# EAGLE library part RTC_PCF2129A (library microbuilder)
PCF2120A - High Accuracy, Temp Compensated RTC with Integrated Crystal Digikey: 568-4960-5-ND
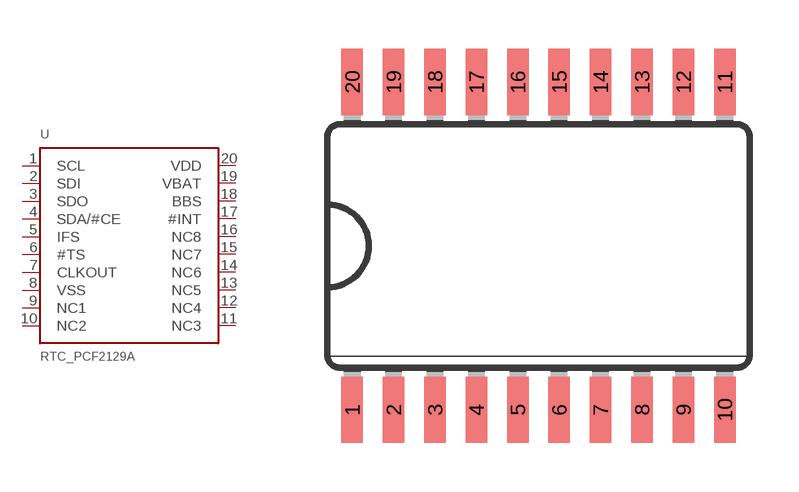
[diagram p86: symbol with the pads of SOIC20WIDE; footprint SOIC20WIDE]

Designator prefix U

## RTC_PCF2129A (PARTNO: PCF2129AT/1,512)  [SOIC20WIDE]
1  SCL
2  SDI
3  SDO
4  SDA/#CE
5  IFS
6  #TS
7  CLKOUT
8  VSS
9  NC1
10  NC2
11  NC3
12  NC4
13  NC5
14  NC6
15  NC7
16  NC8
17  #INT
18  BBS
19  VBAT
20  VDD

## Footprint SOIC20WIDE (pad centres in mm)
smd 0.66 x 2.032: 1 -5.715,-5.029; 2 -4.445,-5.029; 3 -3.175,-5.029; 4 -1.905,-5.029; 5 -0.635,-5.029; 6 0.635,-5.029; 7 1.905,-5.029; 8 3.175,-5.029; 9 4.445,-5.029; 10 5.715,-5.029; 11 5.715,5.029; 12 4.445,5.029; 13 3.175,5.029; 14 1.905,5.029; 15 0.635,5.029; 16 -0.635,5.029; 17 -1.905,5.029; 18 -3.175,5.029; 19 -4.445,5.029; 20 -5.715,5.029